# Altium footprint library BridgeDiode.PcbLib: 1 footprints
Each footprint in its own frame and in the unit in brackets; x right, y up, seen from the top. Pads: shape width x height; smd on the part's side, far side on the other; paste and mask are expansions set on the pad; w line width, h text height; cw(c..) or ccw(c..) is an arc to the next point about the centre after c.
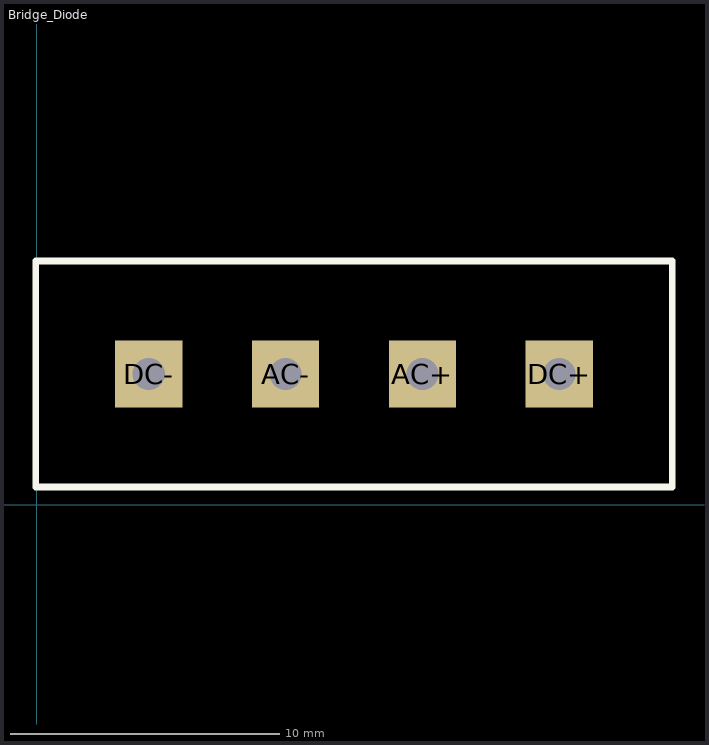
[diagram p0: the footprint, top view; thin cyan lines are the x and y axes]

## Bridge_Diode [mm]
pads (4):
  rect 2.5x2.5 hole 1.2: AC+(14.325,4.853) AC-(9.245,4.853) DC+(19.405,4.853) DC-(4.165,4.853)
Top Overlay:
  lines w0.254: -0.026,0.662 -0.026,9.044 23.596,9.044 23.596,0.662 -0.026,0.662
3D body "ASA_bridge diode.STEP": height 18.8, standoff -17.83, extent 0.762,3.583 23.062,7.343